# EAGLE library part AQV252G (library AQV252G)
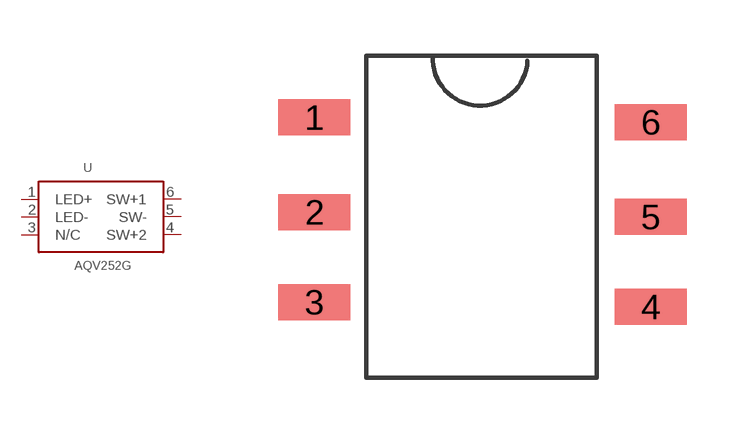
[diagram p0: symbol with the pads of SOP6; footprint SOP6]

Designator prefix U

## AQV252G (Description: Solid State SPST-NO (1 Form A) 6-SMD (0.300, 7.62mm); Digi-Key_Part_Number: 255-1791-5-ND; MF: Panasonic; MP: AQV252G; Package: None; Purchase-URL: https://pricing.snapeda.com/search/part/AQV252G/?ref=eda)  [SOP6]
1  LED+
2  LED-
3  N/C  nc
4  SW+2
5  SW-
6  SW+1

## Footprint SOP6 (pad centres in mm)
smd 1.93 x 0.965: 1 -4.318,6.985; 2 -4.318,4.445; 3 -4.318,2.032; 4 4.699,1.905; 5 4.699,4.318; 6 4.699,6.858